# Altium schematic symbol library conn_wire2board.SchLib: 264 symbols (part 2 of 2)
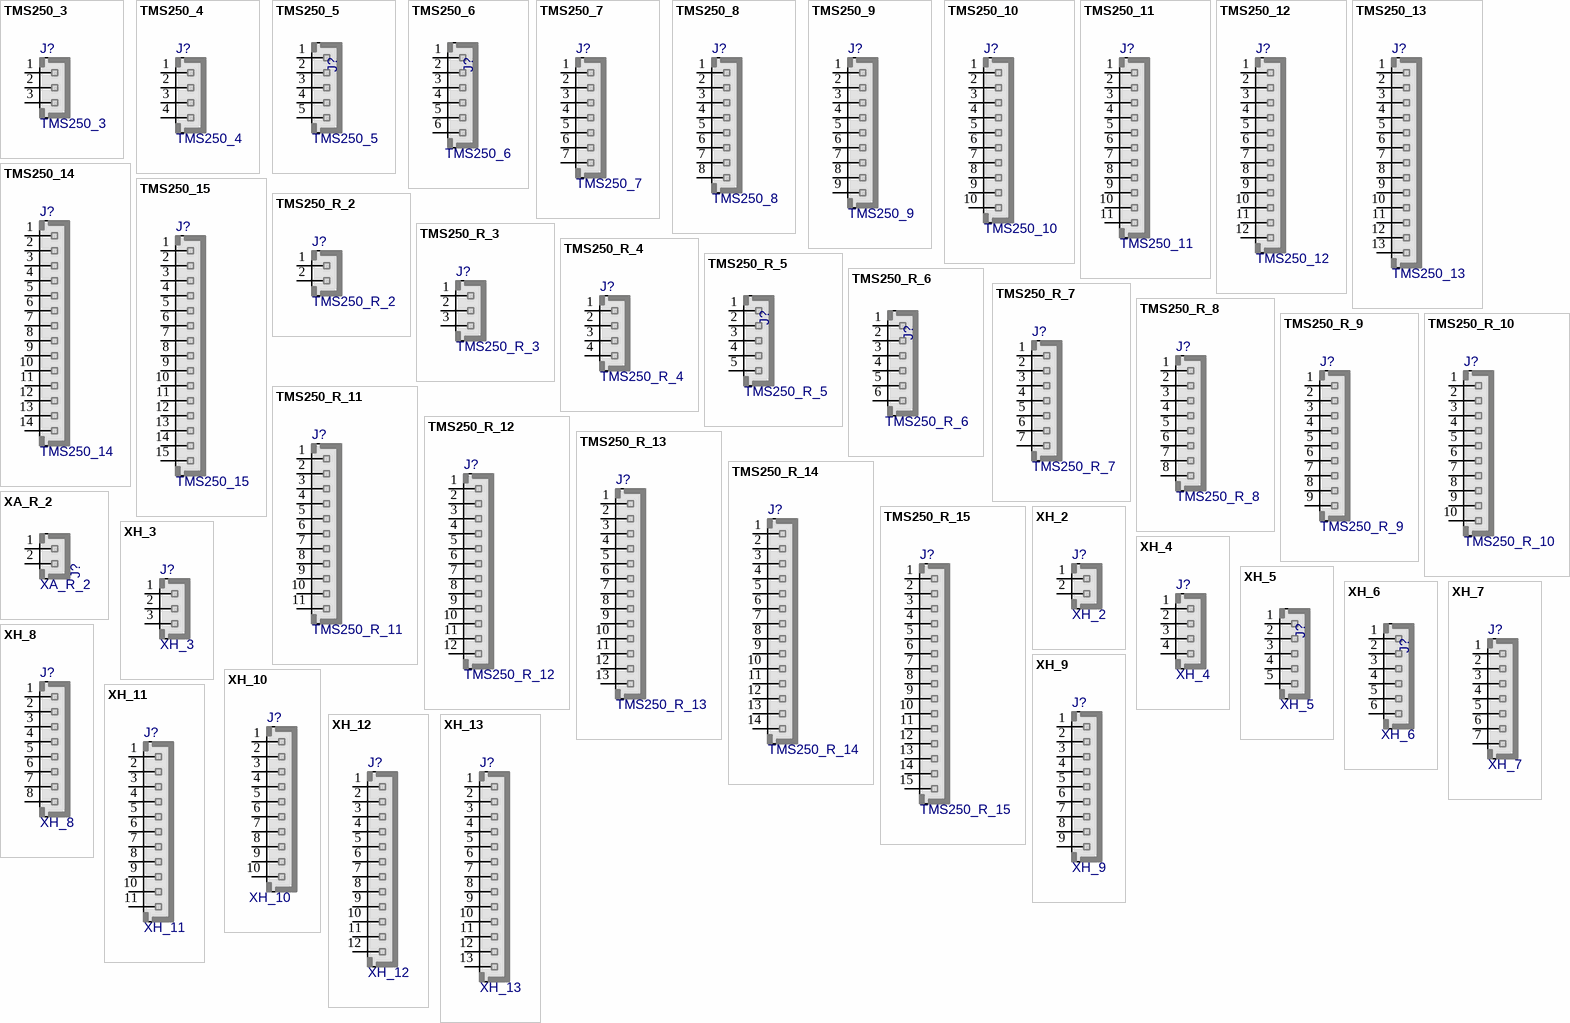
[diagram p7: symbols TMS250_3 to XH_13]

## TMS250_4
designator J?
Molex Mini-SPOX, pitch 2.50mm, 4.0A; MANF_P#: 22035045; MANF: Molex; PARAM: 4.0A; VALUE: TMS250_4
footprint TMS250_4 (Molex Mini-SPOX, pitch 2.50mm, 4.0A)
pins: 1, 2, 3, 4

## TMS250_5
designator J?
Molex Mini-SPOX, pitch 2.50mm, 4.0A; MANF_P#: 22035055; MANF: Molex; PARAM: 4.0A; VALUE: TMS250_5
footprint TMS250_5 (Molex Mini-SPOX, pitch 2.50mm, 4.0A)
pins: 1, 2, 3, 4, 5

## TMS250_6
designator J?
Molex Mini-SPOX, pitch 2.50mm, 4.0A; MANF_P#: 22035065; MANF: Molex; PARAM: 4.0A; VALUE: TMS250_6
footprint TMS250_6 (Molex Mini-SPOX, pitch 2.50mm, 4.0A)
pins: 1, 2, 3, 4, 5, 6

## TMS250_7
designator J?
Molex Mini-SPOX, pitch 2.50mm, 4.0A; MANF_P#: 22035075; MANF: Molex; PARAM: 4.0A; VALUE: TMS250_7
footprint TMS250_7 (Molex Mini-SPOX, pitch 2.50mm, 4.0A)
pins: 1, 2, 3, 4, 5, 6, 7

## TMS250_8
designator J?
Molex Mini-SPOX, pitch 2.50mm, 4.0A; MANF_P#: 22035085; MANF: Molex; PARAM: 4.0A; VALUE: TMS250_8
footprint TMS250_8 (Molex Mini-SPOX, pitch 2.50mm, 4.0A)
pins: 1, 2, 3, 4, 5, 6, 7, 8

## TMS250_9
designator J?
Molex Mini-SPOX, pitch 2.50mm, 4.0A; MANF_P#: 22035095; MANF: Molex; PARAM: 4.0A; VALUE: TMS250_9
footprint TMS250_9 (Molex Mini-SPOX, pitch 2.50mm, 4.0A)
pins: 1, 2, 3, 4, 5, 6, 7, 8, 9

## TMS250_10
designator J?
Molex Mini-SPOX, pitch 2.50mm, 4.0A; MANF_P#: 22035105; MANF: Molex; PARAM: 4.0A; VALUE: TMS250_10
footprint TMS250_10 (Molex Mini-SPOX, pitch 2.50mm, 4.0A)
pins: 1, 2, 3, 4, 5, 6, 7, 8, 9, 10

## TMS250_11
designator J?
Molex Mini-SPOX, pitch 2.50mm, 4.0A; MANF_P#: 22035115; MANF: Molex; PARAM: 4.0A; VALUE: TMS250_11
footprint TMS250_11 (Molex Mini-SPOX, pitch 2.50mm, 4.0A)
pins: 1, 2, 3, 4, 5, 6, 7, 8, 9, 10, 11

## TMS250_12
designator J?
Molex Mini-SPOX, pitch 2.50mm, 4.0A; MANF_P#: 22035125; MANF: Molex; PARAM: 4.0A; VALUE: TMS250_12
footprint TMS250_12 (Molex Mini-SPOX, pitch 2.50mm, 4.0A)
pins: 1, 2, 3, 4, 5, 6, 7, 8, 9, 10, 11, 12

## TMS250_13
designator J?
Molex Mini-SPOX, pitch 2.50mm, 4.0A; MANF_P#: 22035135; MANF: Molex; PARAM: 4.0A; VALUE: TMS250_13
footprint TMS250_13 (Molex Mini-SPOX, pitch 2.50mm, 4.0A)
pins: 1, 2, 3, 4, 5, 6, 7, 8, 9, 10, 11, 12, 13

## TMS250_14
designator J?
Molex Mini-SPOX, pitch 2.50mm, 4.0A; MANF_P#: 22035145; MANF: Molex; PARAM: 4.0A; VALUE: TMS250_14
footprint TMS250_14 (Molex Mini-SPOX, pitch 2.50mm, 4.0A)
pins: 1, 2, 3, 4, 5, 6, 7, 8, 9, 10, 11, 12, 13, 14

## TMS250_15
designator J?
Molex Mini-SPOX, pitch 2.50mm, 4.0A; MANF_P#: 22035155; MANF: Molex; PARAM: 4.0A; VALUE: TMS250_15
footprint TMS250_15 (Molex Mini-SPOX, pitch 2.50mm, 4.0A)
pins: 1, 2, 3, 4, 5, 6, 7, 8, 9, 10, 11, 12, 13, 14, 15

## TMS250_R_2
designator J?
Molex Mini-SPOX, pitch 2.50mm, 4.0A; MANF_P#: 22057025; MANF: Molex; PARAM: 4.0A; VALUE: TMS250_R_2
footprint TMS250_R_2 (Molex Mini-SPOX, pitch 2.50mm, 4.0A)
pins: 1, 2

## TMS250_R_3
designator J?
Molex Mini-SPOX, pitch 2.50mm, 4.0A; MANF_P#: 22057057; MANF: Molex; PARAM: 4.0A; VALUE: TMS250_R_3
footprint TMS250_R_3 (Molex Mini-SPOX, pitch 2.50mm, 4.0A)
pins: 1, 2, 3

## TMS250_R_4
designator J?
Molex Mini-SPOX, pitch 2.50mm, 4.0A; MANF_P#: 22057045; MANF: Molex; PARAM: 4.0A; VALUE: TMS250_R_4
footprint TMS250_R_4 (Molex Mini-SPOX, pitch 2.50mm, 4.0A)
pins: 1, 2, 3, 4

## TMS250_R_5
designator J?
Molex Mini-SPOX, pitch 2.50mm, 4.0A; MANF_P#: 22057055; MANF: Molex; PARAM: 4.0A; VALUE: TMS250_R_5
footprint TMS250_R_5 (Molex Mini-SPOX, pitch 2.50mm, 4.0A)
pins: 1, 2, 3, 4, 5

## TMS250_R_6
designator J?
Molex Mini-SPOX, pitch 2.50mm, 4.0A; MANF_P#: 22057065; MANF: Molex; PARAM: 4.0A; VALUE: TMS250_R_6
footprint TMS250_R_6 (Molex Mini-SPOX, pitch 2.50mm, 4.0A)
pins: 1, 2, 3, 4, 5, 6

## TMS250_R_7
designator J?
Molex Mini-SPOX, pitch 2.50mm, 4.0A; MANF_P#: 22057075; MANF: Molex; PARAM: 4.0A; VALUE: TMS250_R_7
footprint TMS250_R_7 (Molex Mini-SPOX, pitch 2.50mm, 4.0A)
pins: 1, 2, 3, 4, 5, 6, 7

## TMS250_R_8
designator J?
Molex Mini-SPOX, pitch 2.50mm, 4.0A; MANF_P#: 22057085; MANF: Molex; PARAM: 4.0A; VALUE: TMS250_R_8
footprint TMS250_R_8 (Molex Mini-SPOX, pitch 2.50mm, 4.0A)
pins: 1, 2, 3, 4, 5, 6, 7, 8

## TMS250_R_9
designator J?
Molex Mini-SPOX, pitch 2.50mm, 4.0A; MANF_P#: 22057095; MANF: Molex; PARAM: 4.0A; VALUE: TMS250_R_9
footprint TMS250_R_9 (Molex Mini-SPOX, pitch 2.50mm, 4.0A)
pins: 1, 2, 3, 4, 5, 6, 7, 8, 9

## TMS250_R_10
designator J?
Molex Mini-SPOX, pitch 2.50mm, 4.0A; MANF_P#: 22057105; MANF: Molex; PARAM: 4.0A; VALUE: TMS250_R_10
footprint TMS250_R_10 (Molex Mini-SPOX, pitch 2.50mm, 4.0A)
pins: 1, 2, 3, 4, 5, 6, 7, 8, 9, 10

## TMS250_R_11
designator J?
Molex Mini-SPOX, pitch 2.50mm, 4.0A; MANF_P#: 22057115; MANF: Molex; PARAM: 4.0A; VALUE: TMS250_R_11
footprint TMS250_R_11 (Molex Mini-SPOX, pitch 2.50mm, 4.0A)
pins: 1, 2, 3, 4, 5, 6, 7, 8, 9, 10, 11

## TMS250_R_12
designator J?
Molex Mini-SPOX, pitch 2.50mm, 4.0A; MANF_P#: 22057125; MANF: Molex; PARAM: 4.0A; VALUE: TMS250_R_12
footprint TMS250_R_12 (Molex Mini-SPOX, pitch 2.50mm, 4.0A)
pins: 1, 2, 3, 4, 5, 6, 7, 8, 9, 10, 11, 12

## TMS250_R_13
designator J?
Molex Mini-SPOX, pitch 2.50mm, 4.0A; MANF_P#: 22057157; MANF: Molex; PARAM: 4.0A; VALUE: TMS250_R_13
footprint TMS250_R_13 (Molex Mini-SPOX, pitch 2.50mm, 4.0A)
pins: 1, 2, 3, 4, 5, 6, 7, 8, 9, 10, 11, 12, 13

## TMS250_R_14
designator J?
Molex Mini-SPOX, pitch 2.50mm, 4.0A; MANF_P#: 22057145; MANF: Molex; PARAM: 4.0A; VALUE: TMS250_R_14
footprint TMS250_R_14 (Molex Mini-SPOX, pitch 2.50mm, 4.0A)
pins: 1, 2, 3, 4, 5, 6, 7, 8, 9, 10, 11, 12, 13, 14

## TMS250_R_15
designator J?
Molex Mini-SPOX, pitch 2.50mm, 4.0A; MANF_P#: 22057155; MANF: Molex; PARAM: 4.0A; VALUE: TMS250_R_15
footprint TMS250_R_15 (Molex Mini-SPOX, pitch 2.50mm, 4.0A)
pins: 1, 2, 3, 4, 5, 6, 7, 8, 9, 10, 11, 12, 13, 14, 15

## XA_R_2
designator J?
Header, Housing, XA, Pitch: 2.5mm, Righ angle; MANF_P#: S02B-XASS-1; MANF: JST; VALUE: XA_R_2
footprint XA_R_2 (JST S02B-XASS-1 pitch: 2.5mm)
pins: 1, 2

## XH_2
designator J?
PW10-x-M, JST-BxB-XH-A pitch: 2.5mm, 3A/250v; MANF: JST; MANF_P#: B2B-XH-A; PARAM2: 250v; PARAM: 3.0A; VALUE: XH_2
footprint XH_2 (PW10-xx-M, JST-BxB-XH-A pitch: 2.5mm)
pins: 1, 2

## XH_3
designator J?
PW10-x-M, JST-BxB-XH-A pitch: 2.5mm, 3A/250v; MANF: JST; MANF_P#: B3B-XH-A; PARAM2: 250v; PARAM: 3.0A; VALUE: XH_3
footprint XH_3 (PW10-xx-M, JST-BxB-XH-A pitch: 2.5mm)
pins: 1, 2, 3

## XH_4
designator J?
PW10-x-M, JST-BxB-XH-A pitch: 2.5mm, 3A/250v; MANF: JST; MANF_P#: B4B-XH-A; PARAM2: 250v; PARAM: 3.0A; VALUE: XH_4
footprint XH_4 (PW10-xx-M, JST-BxB-XH-A pitch: 2.5mm)
pins: 1, 2, 3, 4

## XH_5
designator J?
PW10-x-M, JST-BxB-XH-A pitch: 2.5mm, 3A/250v; MANF: JST; PARAM2: 250v; PARAM: 3.0A; MANF_P#: B5B-XH-A; VALUE: XH_5
footprint XH_5 (PW10-xx-M, JST-BxB-XH-A pitch: 2.5mm)
pins: 1, 2, 3, 4, 5

## XH_6
designator J?
PW10-x-M, JST-BxB-XH-A pitch: 2.5mm, 3A/250v; MANF: JST; PARAM2: 250v; PARAM: 3.0A; MANF_P#: B6B-XH-A; VALUE: XH_6
footprint XH_6 (PW10-xx-M, JST-BxB-XH-A pitch: 2.5mm)
footprint XH_MSMD_6 (JST-SxB-XH-A pitch: 2.5mm, manual smd!)
footprint XH_MSMDE_6 (JST-BxB-XH-A pitch: 2.5mm, 3A/250v, manual SMD EDGE !)
footprint XH_MSMDES_6 (JST-BxB-XH-A pitch: 2.5mm, 3A/250v, manual SMD EDGE MOUNT small pads)
pins: 1, 2, 3, 4, 5, 6

## XH_7
designator J?
PW10-x-M, JST-BxB-XH-A pitch: 2.5mm, 3A/250v; MANF: JST; MANF_P#: B7B-XH-A; PARAM2: 250v; PARAM: 3.0A; VALUE: XH_7
footprint XH_7 (PW10-xx-M, JST-BxB-XH-A pitch: 2.5mm)
pins: 1, 2, 3, 4, 5, 6, 7

## XH_8
designator J?
PW10-x-M, JST-BxB-XH-A pitch: 2.5mm, 3A/250v; MANF: JST; MANF_P#: B8B-XH-A; PARAM2: 250v; PARAM: 3.0A; VALUE: XH_8
footprint XH_8 (PW10-xx-M, JST-BxB-XH-A pitch: 2.5mm)
pins: 1, 2, 3, 4, 5, 6, 7, 8

## XH_9
designator J?
PW10-x-M, JST-BxB-XH-A pitch: 2.5mm, 3A/250v; MANF: JST; MANF_P#: B9B-XH-A; PARAM2: 250v; PARAM: 3.0A; VALUE: XH_9
footprint XH_9 (PW10-xx-M, JST-BxB-XH-A pitch: 2.5mm)
pins: 1, 2, 3, 4, 5, 6, 7, 8, 9

## XH_10
designator J?
PW10-x-M, JST-BxB-XH-A pitch: 2.5mm, 3A/250v; MANF: JST; MANF_P#: B10B-XH-A; PARAM2: 250v; PARAM: 3.0A; VALUE: XH_10
footprint XH_10 (PW10-xx-M, JST-BxB-XH-A pitch: 2.5mm)
pins: 1, 2, 3, 4, 5, 6, 7, 8, 9, 10

## XH_11
designator J?
PW10-x-M, JST-BxB-XH-A pitch: 2.5mm, 3A/250v; MANF: JST; MANF_P#: B11B-XH-A; PARAM2: 250v; PARAM: 3.0A; VALUE: XH_11
footprint XH_11 (PW10-x-M, JST-BxB-XH-A pitch: 2.5mm, 3A/250v)
pins: 1, 2, 3, 4, 5, 6, 7, 8, 9, 10, 11

## XH_12
designator J?
PW10-x-M, JST-BxB-XH-A pitch: 2.5mm, 3A/250v; MANF: JST; MANF_P#: B12B-XH-A; PARAM2: 250v; PARAM: 3.0A; VALUE: XH_12
footprint XH_12 (PW10-x-M, JST-BxB-XH-A pitch: 2.5mm, 3A/250v)
pins: 1, 2, 3, 4, 5, 6, 7, 8, 9, 10, 11, 12

## XH_13
designator J?
PW10-x-M, JST-BxB-XH-A pitch: 2.5mm, 3A/250v; MANF: JST; MANF_P#: B13B-XH-A; PARAM2: 250v; PARAM: 3.0A; VALUE: XH_13
footprint XH_13 (PW10-x-M, JST-BxB-XH-A pitch: 2.5mm, 3A/250v)
pins: 1, 2, 3, 4, 5, 6, 7, 8, 9, 10, 11, 12, 13

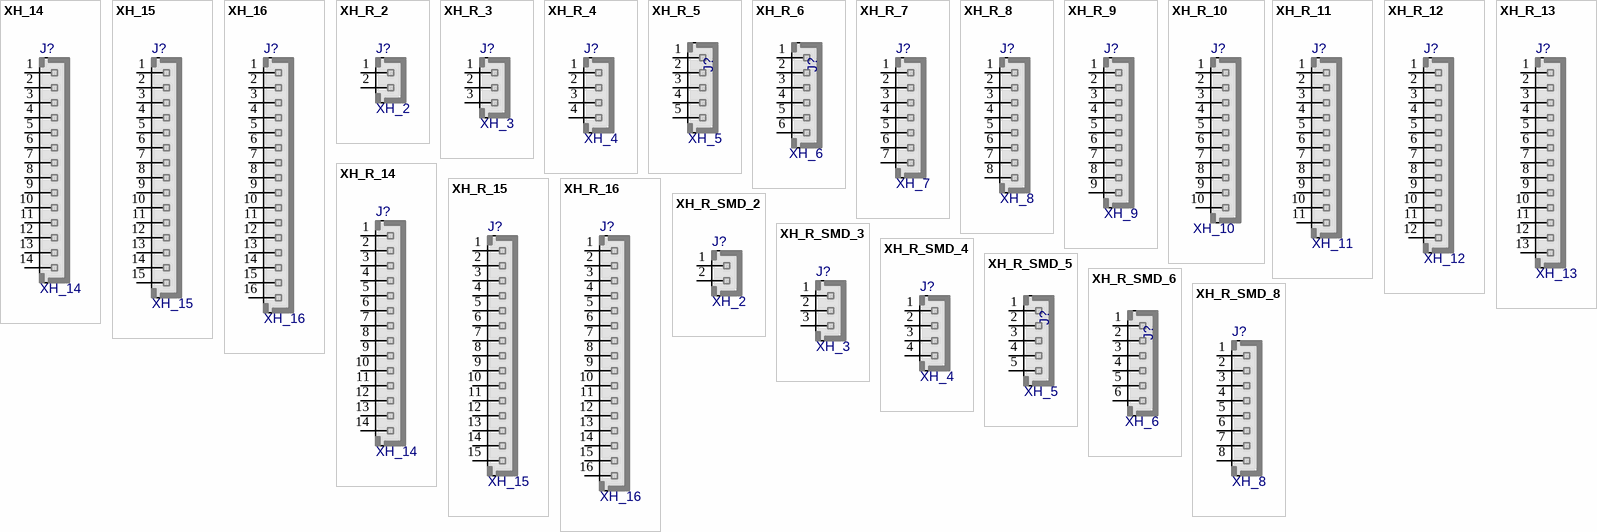
[diagram p6: symbols XH_14 to XH_R_SMD_8]

## XH_14
designator J?
PW10-x-M, JST-BxB-XH-A pitch: 2.5mm, 3A/250v; MANF: JST; MANF_P#: B14B-XH-A; PARAM2: 250v; PARAM: 3.0A; VALUE: XH_14
footprint XH_14 (PW10-x-M, JST-BxB-XH-A pitch: 2.5mm, 3A/250v)
pins: 1, 2, 3, 4, 5, 6, 7, 8, 9, 10, 11, 12, 13, 14

## XH_15
designator J?
PW10-x-M, JST-BxB-XH-A pitch: 2.5mm, 3A/250v; MANF: JST; MANF_P#: B15B-XH-A; PARAM2: 250v; PARAM: 3.0A; VALUE: XH_15
footprint XH_15 (PW10-x-M, JST-BxB-XH-A pitch: 2.5mm, 3A/250v)
pins: 1, 2, 3, 4, 5, 6, 7, 8, 9, 10, 11, 12, 13, 14, 15

## XH_16
designator J?
PW10-x-M, JST-BxB-XH-A pitch: 2.5mm, 3A/250v; MANF: JST; MANF_P#: B16B-XH-A; PARAM2: 250v; PARAM: 3.0A; VALUE: XH_16
footprint XH_16 (PW10-x-M, JST-BxB-XH-A pitch: 2.5mm, 3A/250v)
pins: 1, 2, 3, 4, 5, 6, 7, 8, 9, 10, 11, 12, 13, 14, 15, 16

## XH_R_2
designator J?, comment XH_2
JST-SxB-XH-A pitch: 2.5mm, 3A/250v; MANF: JST; MANF_P#: S2B-XH-A; PARAM2: 250v; PARAM: 3.0A; VALUE: XH_2
footprint XH_R_2 (JST-SxB-XH-A pitch: 2.5mm, 3A/250v, Righ Angle (Side Entry))
pins: 1, 2

## XH_R_3
designator J?, comment XH_3
JST-SxB-XH-A pitch: 2.5mm, 3A/250v; MANF: JST; MANF_P#: S3B-XH-A; PARAM2: 250v; PARAM: 3.0A; VALUE: XH_3
footprint XH_R_3 (JST-SxB-XH-A pitch: 2.5mm, 3A/250v, Righ Angle (Side Entry))
pins: 1, 2, 3

## XH_R_4
designator J?, comment XH_4
JST-SxB-XH-A pitch: 2.5mm, 3A/250v; MANF: JST; MANF_P#: S4B-XH-A; PARAM2: 250v; PARAM: 3.0A; VALUE: XH_4
footprint XH_R_4 (JST-SxB-XH-A pitch: 2.5mm, 3A/250v, Righ Angle (Side Entry))
pins: 1, 2, 3, 4

## XH_R_5
designator J?, comment XH_5
JST-SxB-XH-A pitch: 2.5mm, 3A/250v; MANF: JST; PARAM2: 250v; PARAM: 3.0A; MANF_P#: S5B-XH-A; VALUE: XH_5
footprint XH_R_5 (JST-SxB-XH-A pitch: 2.5mm, 3A/250v, Righ Angle (Side Entry))
pins: 1, 2, 3, 4, 5

## XH_R_6
designator J?, comment XH_6
JST-SxB-XH-A pitch: 2.5mm, 3A/250v; MANF: JST; PARAM2: 250v; PARAM: 3.0A; MANF_P#: S6B-XH-A; VALUE: XH_6
footprint XH_R_6 (JST-SxB-XH-A pitch: 2.5mm, 3A/250v, Righ Angle (Side Entry))
pins: 1, 2, 3, 4, 5, 6

## XH_R_7
designator J?, comment XH_7
JST-SxB-XH-A pitch: 2.5mm, 3A/250v; MANF: JST; MANF_P#: S7B-XH-A; PARAM2: 250v; PARAM: 3.0A; VALUE: XH_7
footprint XH_R_7 (JST-SxB-XH-A pitch: 2.5mm, 3A/250v, Righ Angle (Side Entry))
pins: 1, 2, 3, 4, 5, 6, 7

## XH_R_8
designator J?, comment XH_8
JST-SxB-XH-A pitch: 2.5mm, 3A/250v; MANF: JST; MANF_P#: S8B-XH-A; PARAM2: 250v; PARAM: 3.0A; VALUE: XH_8
footprint XH_R_8 (JST-SxB-XH-A pitch: 2.5mm, 3A/250v, Righ Angle (Side Entry))
pins: 1, 2, 3, 4, 5, 6, 7, 8

## XH_R_9
designator J?, comment XH_9
JST-SxB-XH-A pitch: 2.5mm, 3A/250v; MANF: JST; MANF_P#: S9B-XH-A; PARAM2: 250v; PARAM: 3.0A; VALUE: XH_9
footprint XH_R_9 (JST-SxB-XH-A pitch: 2.5mm, 3A/250v, Righ Angle (Side Entry))
pins: 1, 2, 3, 4, 5, 6, 7, 8, 9

## XH_R_10
designator J?, comment XH_10
JST-SxB-XH-A pitch: 2.5mm, 3A/250v; MANF: JST; MANF_P#: S10B-XH-A; PARAM2: 250v; PARAM: 3.0A; VALUE: XH_10
footprint XH_R_10 (JST-SxB-XH-A pitch: 2.5mm, 3A/250v, Righ Angle (Side Entry))
pins: 1, 2, 3, 4, 5, 6, 7, 8, 9, 10

## XH_R_11
designator J?, comment XH_11
JST-SxB-XH-A pitch: 2.5mm, 3A/250v; MANF: JST; MANF_P#: S11B-XH-A; PARAM2: 250v; PARAM: 3.0A; VALUE: XH_11
footprint XH_R_11 (JST-SxB-XH-A pitch: 2.5mm, 3A/250v, Righ Angle (Side Entry))
pins: 1, 2, 3, 4, 5, 6, 7, 8, 9, 10, 11

## XH_R_12
designator J?, comment XH_12
JST-SxB-XH-A pitch: 2.5mm, 3A/250v; MANF: JST; MANF_P#: S12B-XH-A; PARAM2: 250v; PARAM: 3.0A; VALUE: XH_12
footprint XH_R_12 (JST-SxB-XH-A pitch: 2.5mm, 3A/250v, Righ Angle (Side Entry))
pins: 1, 2, 3, 4, 5, 6, 7, 8, 9, 10, 11, 12

## XH_R_13
designator J?, comment XH_13
JST-SxB-XH-A pitch: 2.5mm, 3A/250v; MANF: JST; MANF_P#: S13B-XH-A; PARAM2: 250v; PARAM: 3.0A; VALUE: XH_13
footprint XH_R_13 (JST-SxB-XH-A pitch: 2.5mm, 3A/250v, Righ Angle (Side Entry))
pins: 1, 2, 3, 4, 5, 6, 7, 8, 9, 10, 11, 12, 13

## XH_R_14
designator J?, comment XH_14
JST-SxB-XH-A pitch: 2.5mm, 3A/250v; MANF: JST; MANF_P#: S14B-XH-A; PARAM2: 250v; PARAM: 3.0A; VALUE: XH_14
footprint XH_R_14 (JST-SxB-XH-A pitch: 2.5mm, 3A/250v, Righ Angle (Side Entry))
pins: 1, 2, 3, 4, 5, 6, 7, 8, 9, 10, 11, 12, 13, 14

## XH_R_15
designator J?, comment XH_15
JST-SxB-XH-A pitch: 2.5mm, 3A/250v; MANF: JST; MANF_P#: S15B-XH-A; PARAM2: 250v; PARAM: 3.0A; VALUE: XH_15
footprint XH_R_15 (JST-SxB-XH-A pitch: 2.5mm, 3A/250v, Righ Angle (Side Entry))
pins: 1, 2, 3, 4, 5, 6, 7, 8, 9, 10, 11, 12, 13, 14, 15

## XH_R_16
designator J?, comment XH_16
JST-SxB-XH-A pitch: 2.5mm, 3A/250v; MANF: JST; MANF_P#: S16B-XH-A; PARAM2: 250v; PARAM: 3.0A; VALUE: XH_16
footprint XH_R_16 (JST-SxB-XH-A pitch: 2.5mm, 3A/250v, Righ Angle (Side Entry))
pins: 1, 2, 3, 4, 5, 6, 7, 8, 9, 10, 11, 12, 13, 14, 15, 16

## XH_R_SMD_2
designator J?, comment XH_2
JST-SxB-XH-SM4 pitch: 2.5mm, 3A/250v; MANF: JST; MANF_P#: S2B-XH-A; PARAM2: 250v; PARAM: 3.0A; VALUE: XH_2
footprint XH_R_SMD_2 (JST-SxB-XH-SM4-TB pitch: 2.5mm, 3A/250v, Righ Angle (Side Entry), SMD)
pins: 1, 2

## XH_R_SMD_3
designator J?, comment XH_3
JST-SxB-XH-SM4 pitch: 2.5mm, 3A/250v; MANF: JST; MANF_P#: S3B-XH-A; PARAM2: 250v; PARAM: 3.0A; VALUE: XH_3
footprint XH_R_SMD_3 (JST-SxB-XH-SM4-TB pitch: 2.5mm, 3A/250v, Righ Angle (Side Entry), SMD)
pins: 1, 2, 3

## XH_R_SMD_4
designator J?, comment XH_4
JST-SxB-XH-SM4 pitch: 2.5mm, 3A/250v; MANF: JST; MANF_P#: S4B-XH-A; PARAM2: 250v; PARAM: 3.0A; VALUE: XH_4
footprint XH_R_SMD_4 (JST-SxB-XH-SM4-TB pitch: 2.5mm, 3A/250v, Righ Angle (Side Entry), SMD)
pins: 1, 2, 3, 4

## XH_R_SMD_5
designator J?, comment XH_5
JST-SxB-XH-SM4 pitch: 2.5mm, 3A/250v; MANF: JST; PARAM2: 250v; PARAM: 3.0A; MANF_P#: S5B-XH-A; VALUE: XH_5
footprint XH_R_SMD_5 (JST-SxB-XH-SM4-TB pitch: 2.5mm, 3A/250v, Righ Angle (Side Entry), SMD)
pins: 1, 2, 3, 4, 5

## XH_R_SMD_6
designator J?, comment XH_6
JST-SxB-XH-SM4 pitch: 2.5mm, 3A/250v; MANF: JST; PARAM2: 250v; PARAM: 3.0A; MANF_P#: S6B-XH-A; VALUE: XH_6
footprint XH_R_SMD_6 (JST-SxB-XH-SM4-TB pitch: 2.5mm, 3A/250v, Righ Angle (Side Entry), SMD)
pins: 1, 2, 3, 4, 5, 6

## XH_R_SMD_8
designator J?, comment XH_8
JST-SxB-XH-SM4 pitch: 2.5mm, 3A/250v; MANF: JST; MANF_P#: S8B-XH-A; PARAM2: 250v; PARAM: 3.0A; VALUE: XH_8
footprint XH_R_SMD_8 (JST-SxB-XH-SM4-TB pitch: 2.5mm, 3A/250v, Righ Angle (Side Entry), SMD)
pins: 1, 2, 3, 4, 5, 6, 7, 8